# EAGLE library part 180-M15-213R (library con-subd)
DB15 FEMALE HIGH DENSITY
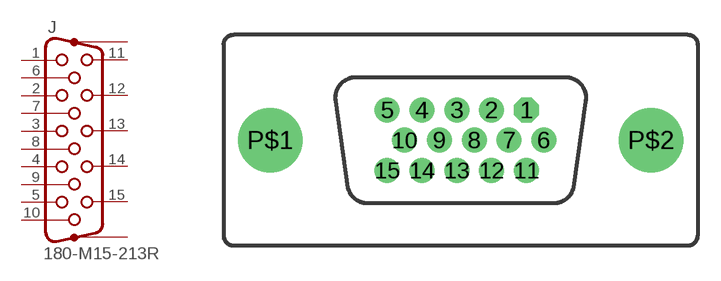
[diagram p95: symbol with the pads of 180-M15-213R; footprint 180-M15-213R]

Designator prefix J

## 180-M15-213R  [180-M15-213R]
1  1  pas
2  2  pas
3  3  pas
4  4  pas
5  5  pas
6  6  pas
7  7  pas
8  8  pas
9  9  pas
10  10  pas
11  11  pas
12  12  pas
13  13  pas
14  14  pas
15  15  pas
P$1  G1  pas
P$2  G2  pas

## Footprint 180-M15-213R (pad centres in mm)
HIGH DENSITY FEMALE VERTICAL 15 PIN
drill 1.092 octagon: 1 4.318,1.981
drill 1.092: 2 2.032,1.981; 3 -0.254,1.981; 4 -2.54,1.981; 5 -4.826,1.981; 6 5.461,0; 7 3.175,0; 8 0.889,0; 9 -1.397,0; 10 -3.683,0; 11 4.318,-1.981; 12 2.032,-1.981; 13 -0.254,-1.981; 14 -2.54,-1.981; 15 -4.826,-1.981
drill 3.2: P$1 -12.497,0; P$2 12.497,0